# Altium schematic symbol library DI_SCHOTTKY_2_CA.SchLib: 1 symbol
Pins are listed as number, name and electrical type; pins without a type are passive.

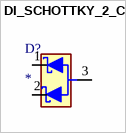
[diagram p0: symbol DI_SCHOTTKY_2_CA]

## DI_SCHOTTKY_2_CA
designator D?
pins: 1 A1, 2 A2, 3 C